# Altium footprint library libjeffpcb.PcbLib: 5 footprints
Each footprint in its own frame and in the unit in brackets; x right, y up, seen from the top. Pads: shape width x height; smd on the part's side, far side on the other; paste and mask are expansions set on the pad; w line width, h text height; cw(c..) or ccw(c..) is an arc to the next point about the centre after c.
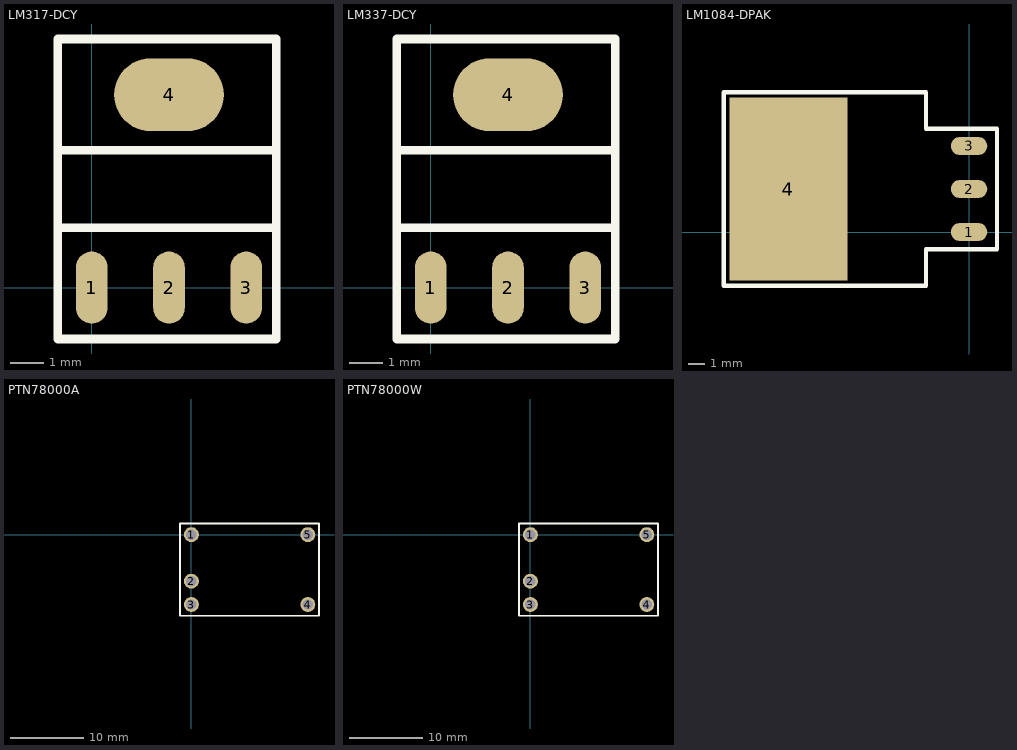
[diagram p0: the footprints below, top view; thin cyan lines are the x and y axes]

## LM317-DCY [mil] "Low drop out voltage regulator"
pads (4):
  oval 37x84 smd mask+6: 1(0,0) 2(90,0) 3(180,0)
  oval 128x85 smd mask+6: 4(90,225)
Top Overlay:
  lines w10: -40,70 215,70 215,160 -40,160 ; 215,-60 -40,-60 -40,290 215,290 215,-60 ; 215,-60 205,-60 215,-60

## LM337-DCY [mil] "Low drop out voltage regulator"
pads (4):
  oval 37x84 smd mask+6: 1(0,0) 2(90,0) 3(180,0)
  oval 128x85 smd mask+6: 4(90,225)
Top Overlay:
  lines w10: -40,70 215,70 215,160 -40,160 ; 215,-60 -40,-60 -40,290 215,290 215,-60 ; 215,-60 205,-60 215,-60

## LM1084-DPAK [mil] "5A low dropout regulator"
pads (4):
  oval 85x42 smd mask+6: 1(0,0) 2(0,100) 3(0,200)
  rect 275x425 smd mask+6: 4(-420,100)
Top Overlay:
  lines w10: -570,-125 -100,-125 -100,-40 65,-40 65,240 -100,240 -100,325 -570,325 -570,-125

## PTN78000A [mil] "1.5A Wide input adjustable regulator"
pads (5):
  round 80 hole 55 mask+6: 1(0,0) 2(0,-250) 3(0,-375) 4(625,-375) 5(625,0)
Top Layer:
  region: -925,120
Top Overlay:
  lines w10: -60,-435 685,-435 685,60 -60,60 -60,-435

## PTN78000W [mil] "1.5A Wide input adjustable regulator"
pads (5):
  round 80 hole 55 mask+6: 1(0,0) 2(0,-250) 3(0,-375) 4(625,-375) 5(625,0)
Top Layer:
  region: -925,120
Top Overlay:
  lines w10: -60,-435 -60,60 685,60 685,-435 -60,-435